# Altium schematic symbol library SnapEDAsch.SchLib: 1 symbol
Pins are listed as number, name and electrical type; pins without a type are passive.

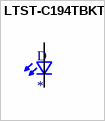
[diagram p0: symbol LTST-C194TBKT]

## LTST-C194TBKT
designator D
Blue 468nm LED Indication - Discrete 3.3V 0603 _1608 Metric_; MF: Lite-On Inc.; MP: LTST-C194TBKT; Package: 0603 Lite-On; Digi-Key_Part_Number: 160-1837-1-ND; Digi-Key_Purchase_URL: https://www.digikey.com/product-detail/en/lite-on-inc/LTST-C194TBKT/160-1837-1-ND/2356236?utm_source=snapeda&utm_medium=aggregator&utm_campaign=symbol; SnapEDA_Link: https://www.snapeda.com/parts/LTST-C194TBKT/Lite-On%20Inc./view-part/426592/?ref=snap; Value: *
footprint 0603
pins: 1 K2, 2 A2